# EAGLE library part HEADER-6 (library me433)
6-Pin Header Generic 6-pin header connector
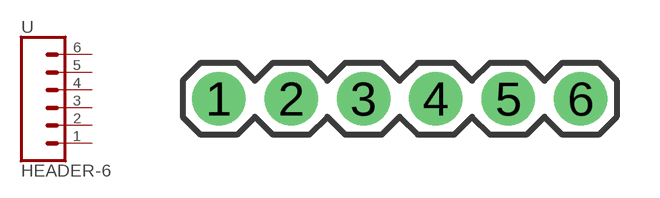
[diagram p2: symbol with the pads of CONN_1X06; footprint CONN_1X06]

Designator prefix -

## HEADER-6  [CONN_1X06]
1  1.  pas
2  2.  pas
3  3.  pas
4  4.  pas
5  5.  pas
6  6.  pas

## Footprint CONN_1X06 (pad centres in mm)
Plated Through Hole - 6 Pin * Pin Count : 6 * Pin Pitch : 0.1"
drill 1.016 pad 1.88: 1 0,0; 2 2.54,0; 3 5.08,0; 4 7.62,0; 5 10.16,0; 6 12.7,0